# Altium footprint library linear.PCBLIB: 119 footprints (part 8 of 8)
Each footprint in its own frame and in the unit in brackets; x right, y up, seen from the top. Pads: shape width x height; smd on the part's side, far side on the other; paste and mask are expansions set on the pad; w line width, h text height; cw(c..) or ccw(c..) is an arc to the next point about the centre after c.
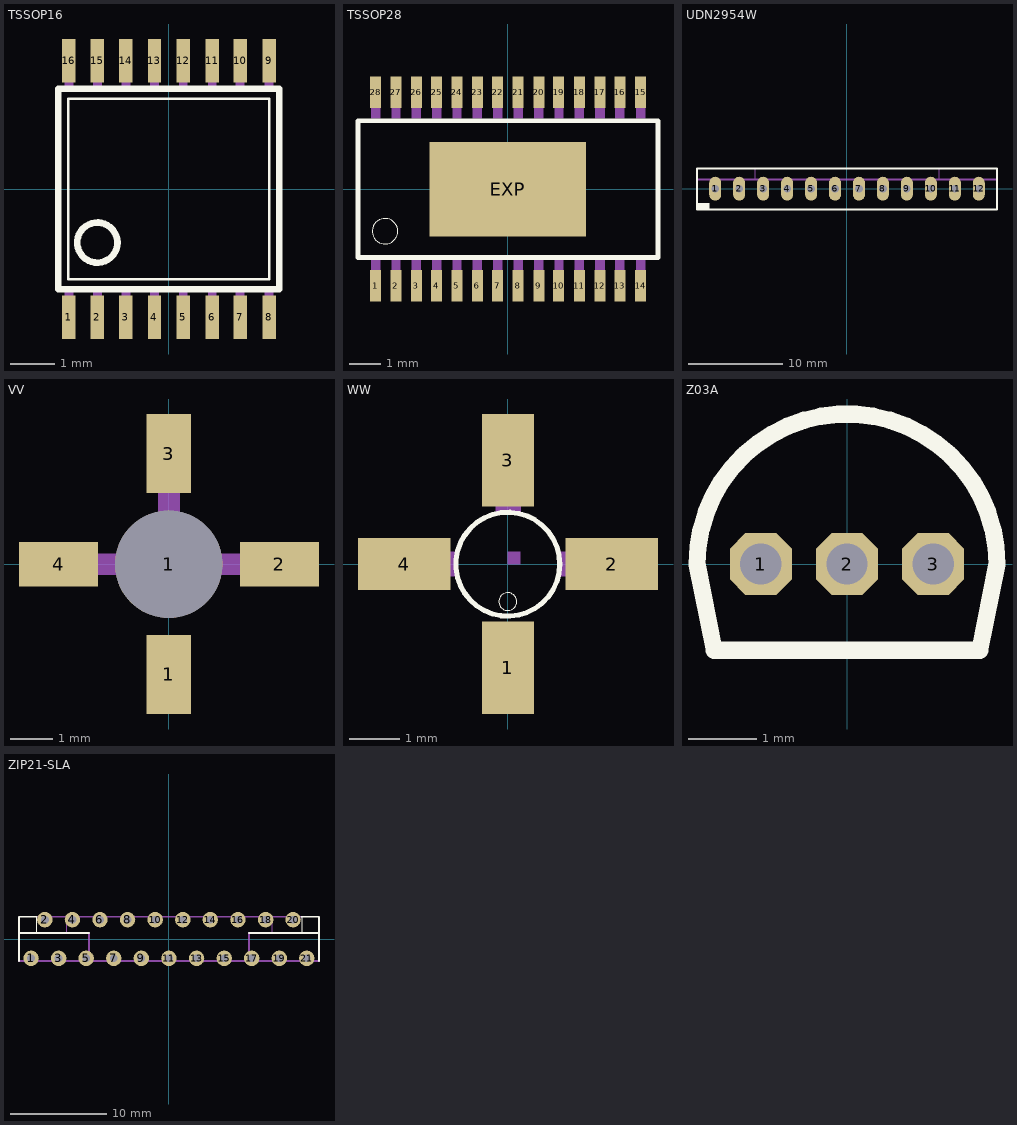
[diagram p7: the footprints below, top view; thin cyan lines are the x and y axes]

## TSSOP16 [mil]
pads (16):
  rect 12x39 smd: 1(-89.57,-114.87) 2(-63.98,-114.87) 3(-38.39,-114.87) 4(-12.8,-114.87) 5(13,-114.87) 6(39,-114.87) 7(64,-114.87) 8(90,-114.87) 9(90,115) 10(64,115) 11(39,115) 12(13,115) 13(-12.8,115) 14(-38.39,115) 15(-63.98,115) 16(-89.57,115)
Top Overlay:
  circle w6: c-64,-48 r18
  lines w2: -90,-80.87 90,-80.87 90,81 -90,81 -90,-80.87
  lines w6: -99,-89.87 99,-89.87 99,90 -99,90 -99,-89.87
Mechanical 16:
  rectangle: -93.57,-122.87 -85.57,-89.87
  rectangle: -67.98,-122.87 -59.98,-89.87
  rectangle: -42.39,-122.87 -34.39,-89.87
  rectangle: -16.8,-122.87 -8.8,-89.87
  rectangle: 9,-122.87 17,-89.87
  rectangle: 35,-122.87 43,-89.87
  rectangle: 60,-122.87 68,-89.87
  rectangle: 86,-122.87 94,-89.87
  rectangle: 86,90 94,123
  rectangle: 60,90 68,123
  rectangle: 35,90 43,123
  rectangle: 9,90 17,123
  rectangle: -16.8,90 -8.8,123
  rectangle: -42.39,90 -34.39,123
  rectangle: -67.98,90 -59.98,123
  rectangle: -93.57,90 -85.57,123

## TSSOP28 [mil]
pads (29):
  rect 14x40 smd: 1(-166.34,-121.56) 2(-140.75,-121.56) 3(-115.16,-121.56) 4(-89.57,-121.56) 5(-63.98,-121.56) 6(-38.39,-121.56) 7(-12.8,-121.56) 8(13,-121.56) 9(39,-121.56) 10(64,-121.56) 11(90,-121.56) 12(116,-121.56) 13(141,-121.56) 14(167,-121.56) 15(167,122) 16(141,122) 17(116,122) 18(90,122) 19(64,122) 20(39,122) 21(13,122) 22(-12.8,122) 23(-38.39,122) 24(-63.98,122) 25(-89.57,122) 26(-115.16,122) 27(-140.75,122) 28(-166.34,122)
  rect 197x119 smd: EXP(0,0)
Top Overlay:
  circle w0: c-154.55,-52.92 r16
  lines w6: -188.57,-85.94 189,-85.94 189,86 -188.57,86 -188.57,-85.94
Mechanical 16:
  rectangle: -172.24,-129.92 -160.43,-88.58
  rectangle: -146.65,-129.92 -134.84,-88.58
  rectangle: -121.06,-129.92 -109.25,-88.58
  rectangle: -95.47,-129.92 -83.66,-88.58
  rectangle: -69.88,-129.92 -58.07,-88.58
  rectangle: -44.29,-129.92 -32.48,-88.58
  rectangle: -18.7,-129.92 -6.89,-88.58
  rectangle: 7,-129.92 19,-88.58
  rectangle: 33,-129.92 45,-88.58
  rectangle: 59,-129.92 70,-88.58
  rectangle: 84,-129.92 96,-88.58
  rectangle: 110,-129.92 122,-88.58
  rectangle: 135,-129.92 147,-88.58
  rectangle: 161,-129.92 173,-88.58
  region: 173,130 161,130 161,89 173,89
  region: 147,130 135,130 135,89 147,89
  region: 122,130 110,130 110,89 122,89
  region: 96,130 84,130 84,89 96,89
  region: 70,130 59,130 59,89 70,89
  region: 45,130 33,130 33,89 45,89
  region: 19,130 7,130 7,89 19,89
  region: -6.89,130 -18.7,130 -18.7,89 -6.89,89
  region: -32.48,130 -44.29,130 -44.29,89 -32.48,89
  region: -58.07,130 -69.88,130 -69.88,89 -58.07,89
  region: -83.66,130 -95.47,130 -95.47,89 -83.66,89
  region: -109.25,130 -121.06,130 -121.06,89 -109.25,89
  region: -134.84,130 -146.65,130 -146.65,89 -134.84,89
  region: -160.43,130 -172.24,130 -172.24,89 -160.43,89

## UDN2954W [mil]
pads (12):
  oval 50x100 hole 32: 1(-550,0) 2(-450,0) 3(-350,0) 4(-250,0) 5(-150,0) 6(-50,0) 7(50,0) 8(150,0) 9(250,0) 10(350,0) 11(450,0) 12(550,0)
Top Overlay:
  rectangle: -625,-86.61 -574.8,-59.06
  lines w8: -625.98,-87.6 626,-87.6 626,85 -625.98,85 -625.98,-87.6
Mechanical 16:
  lines w4: -383.86,41 -383.86,82 ; 384,41 384,81
  lines w8: -622.05,38 623,38

## VV [mil]
pads (5):
  rect 41x73 smd: 1(0,-101.38) 3(0,102)
  round 99 hole 99: 1(0,0)
  rect 73x41 smd: 2(102,0) 4(-101.38,0)
Top Overlay:
  circle w4: c0,0 r41
  circle w0: c0,-29.53 r7
Mechanical 16:
  rectangle: -125,-9.84 -39.96,10
  region: 125,10 40,10 40,-9.84 125,-9.84
  region: -9.76,125.76 -9.76,40.24 10.24,40.24 10.24,125.76
  region: 0,0 10,0 10,10 0,10

## WW [mil]
pads (4):
  rect 41x73 smd: 1(0,-81.69) 3(0,82)
  rect 73x41 smd: 2(82,0) 4(-81.69,0)
Top Overlay:
  circle w4: c0,0 r41
  circle w0: c0,-29.53 r7
Mechanical 16:
  rectangle: -92.52,-9.84 -39.96,10
  region: 93,10 40,10 40,-9.84 93,-9.84
  region: -9.64,93.64 -9.64,40.36 10.36,40.36 10.36,93.64
  region: 0,0 10,0 10,10 0,10

## Z03A [mil]
pads (3):
  oct 36x36 hole 24: 1(-50,0) 2(0,0) 3(50,0)
Top Overlay:
  lines w10: -87,0 cw(c0,0) 87,0 77,-50 -77,-50 -87,0

## ZIP21-SLA [mil]
pads (21):
  round 63 hole 32: 1(-562.99,-78.74) 2(-506.69,79) 3(-450.39,-78.74) 4(-394.09,79) 5(-337.8,-78.74) 6(-281.5,79) 7(-225.2,-78.74) 8(-168.9,79) 9(-112.6,-78.74) 10(-56.3,79) 11(0,-78.74) 12(57,79) 13(113,-78.74) 14(169,79) 15(226,-78.74) 16(282,79) 17(338,-78.74) 18(395,79) 19(451,-78.74) 20(507,79) 21(563,-78.74)
Top Overlay:
  lines w4: -541.34,26 -541.34,91 ; 542,26 542,91
  lines w8: -612.2,-90.55 -612.2,91 -541.34,91 ; -610.24,24 -326.77,24 ; 327,24 609,24 ; 542,91 613,91 613,-90.55
Mechanical 4:
  text "1" at -580,-40 h77.5
Mechanical 16:
  lines w4: -419.29,26 -419.29,89 ; 420,26 420,89
  lines w8: -612.2,-90.55 613,-90.55 ; -541.34,91 542,91 ; -326.77,-86.61 -326.77,24 ; 327,-86.61 327,24